# EAGLE library part MICROCHIP-RN4020 (library FaBo-BT)
Microchip RN4020 Bluetooth Bluetooth 4.1 low energy radio Radio Transmit power: +7 dBm Receiver sensitivity: -92.5 dBm Typical line-of-sight range: Current Consumption Dormant: 700nA Deep Sleep: 5.0uA Idle: 1.5mA Tx/Rx acvtive: 16mA at 0 dBm Certifications Japan: MIC Japan R201-140392
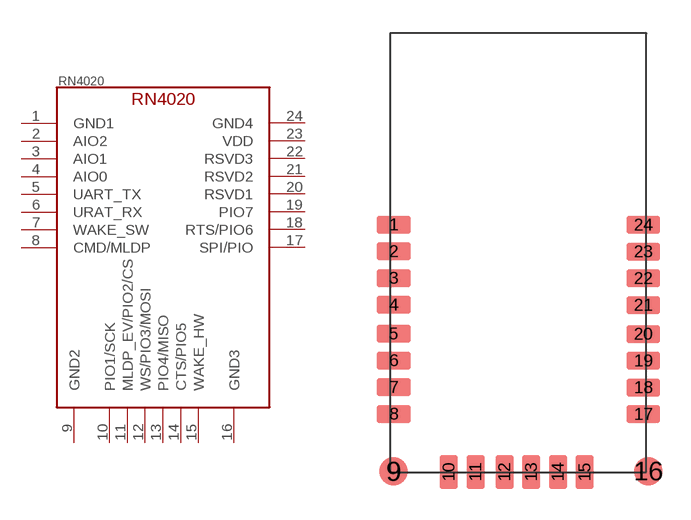
[diagram p3: symbol with the pads of MICROCHIP-RN4020; footprint MICROCHIP-RN4020]

Designator prefix RN4020

## MICROCHIP-RN4020  [MICROCHIP-RN4020]
1  GND1
2  AIO2
3  AIO1
4  AIO0
5  UART_TX
6  URAT_RX
7  WAKE_SW
8  CMD/MLDP
9  GND2
10  PIO1/SCK
11  MLDP_EV/PIO2/CS
12  WS/PIO3/MOSI
13  PIO4/MISO
14  CTS/PIO5
15  WAKE_HW
16  GND3
17  SPI/PIO
18  RTS/PIO6
19  PIO7
20  RSVD1
21  RSVD2
22  RSVD3
23  VDD
24  GND4

## Footprint MICROCHIP-RN4020 (pad centres in mm)
Microchip RN4020 Bluetooth Bluetooth 4.1 low energy radio Radio Transmit power: +7 dBm Receiver sensitivity: -92.5 dBm Typical line-of-sight range: Current Consumption Dormant: 700nA Deep Sleep: 5.0uA Idle: 1.5mA Tx/Rx acvtive: 16mA at 0 dBm Certifications Japan: MIC Japan R201-140392
smd 1.5 x 0.8: 1 -3.04,4.47; 2 -3.04,3.27; 3 -3.04,2.07; 4 -3.04,0.87; 5 -3.04,-0.43; 6 -3.04,-1.63; 7 -3.04,-2.83; 8 -3.04,-4.03; 17 8.16,-4.04; 18 8.16,-2.84; 19 8.16,-1.64; 20 8.16,-0.44; 21 8.16,0.86; 22 8.16,2.06; 23 8.16,3.26; 24 8.16,4.46
smd 1.27 x 1.27: 9 -3.048,-6.604; 16 8.382,-6.604
smd 0.8 x 1.5: 10 -0.57,-6.64; 11 0.63,-6.64; 12 1.93,-6.64; 13 3.13,-6.64; 14 4.33,-6.64; 15 5.53,-6.64